# EAGLE library part LTC3554 (library microbuilder)
LTC3554 - USB Power Manager with Li-Ion Charger and Two Step-Down Regulators The LTC3554 is a micropower, highly integrated power management and battery charger IC for single-cell Li-Ion/Polymer battery applications. The LTC3554 also includes two synchronous step-down switching regulators as well as a pushbutton controller.
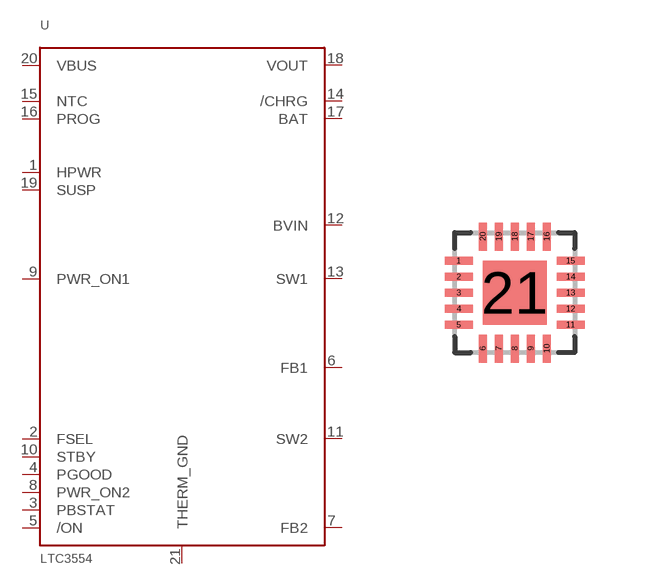
[diagram p74: symbol with the pads of QFN20_3MM; footprint QFN20_3MM]

Designator prefix U

## LTC3554  [QFN20_3MM]
1  HPWR
2  FSEL
3  PBSTAT
4  PGOOD
5  /ON
6  FB1
7  FB2
8  PWR_ON2
9  PWR_ON1
10  STBY
11  SW2
12  BVIN
13  SW1
14  /CHRG
15  NTC
16  PROG
17  BAT
18  VOUT
19  SUSP
20  VBUS
21  THERM_GND

## Footprint QFN20_3MM (pad centres in mm)
20-Lead Plastic QFN (3mm x 3mm, 20-pin 0.4mm pitch) Source: http://cds.linear.com/docs/Datasheet/3554fa.pdf
smd 0.7 x 0.2: 1 -1.4,0.8; 2 -1.4,0.4; 3 -1.4,0; 4 -1.4,-0.4; 5 -1.4,-0.8; 11 1.4,-0.8; 12 1.4,-0.4; 13 1.4,0; 14 1.4,0.4; 15 1.4,0.8
smd 0.2 x 0.7: 6 -0.8,-1.4; 7 -0.4,-1.4; 8 0,-1.4; 9 0.4,-1.4; 10 0.8,-1.4; 16 0.8,1.4; 17 0.4,1.4; 18 0,1.4; 19 -0.4,1.4; 20 -0.8,1.4
smd 1.6 x 1.6: 21 0,0